# Altium footprint library Connector-Header.PcbLib: 107 footprints (part 4 of 7)
Each footprint in its own frame and in the unit in brackets; x right, y up, seen from the top. Pads: shape width x height; smd on the part's side, far side on the other; paste and mask are expansions set on the pad; w line width, h text height; cw(c..) or ccw(c..) is an arc to the next point about the centre after c.
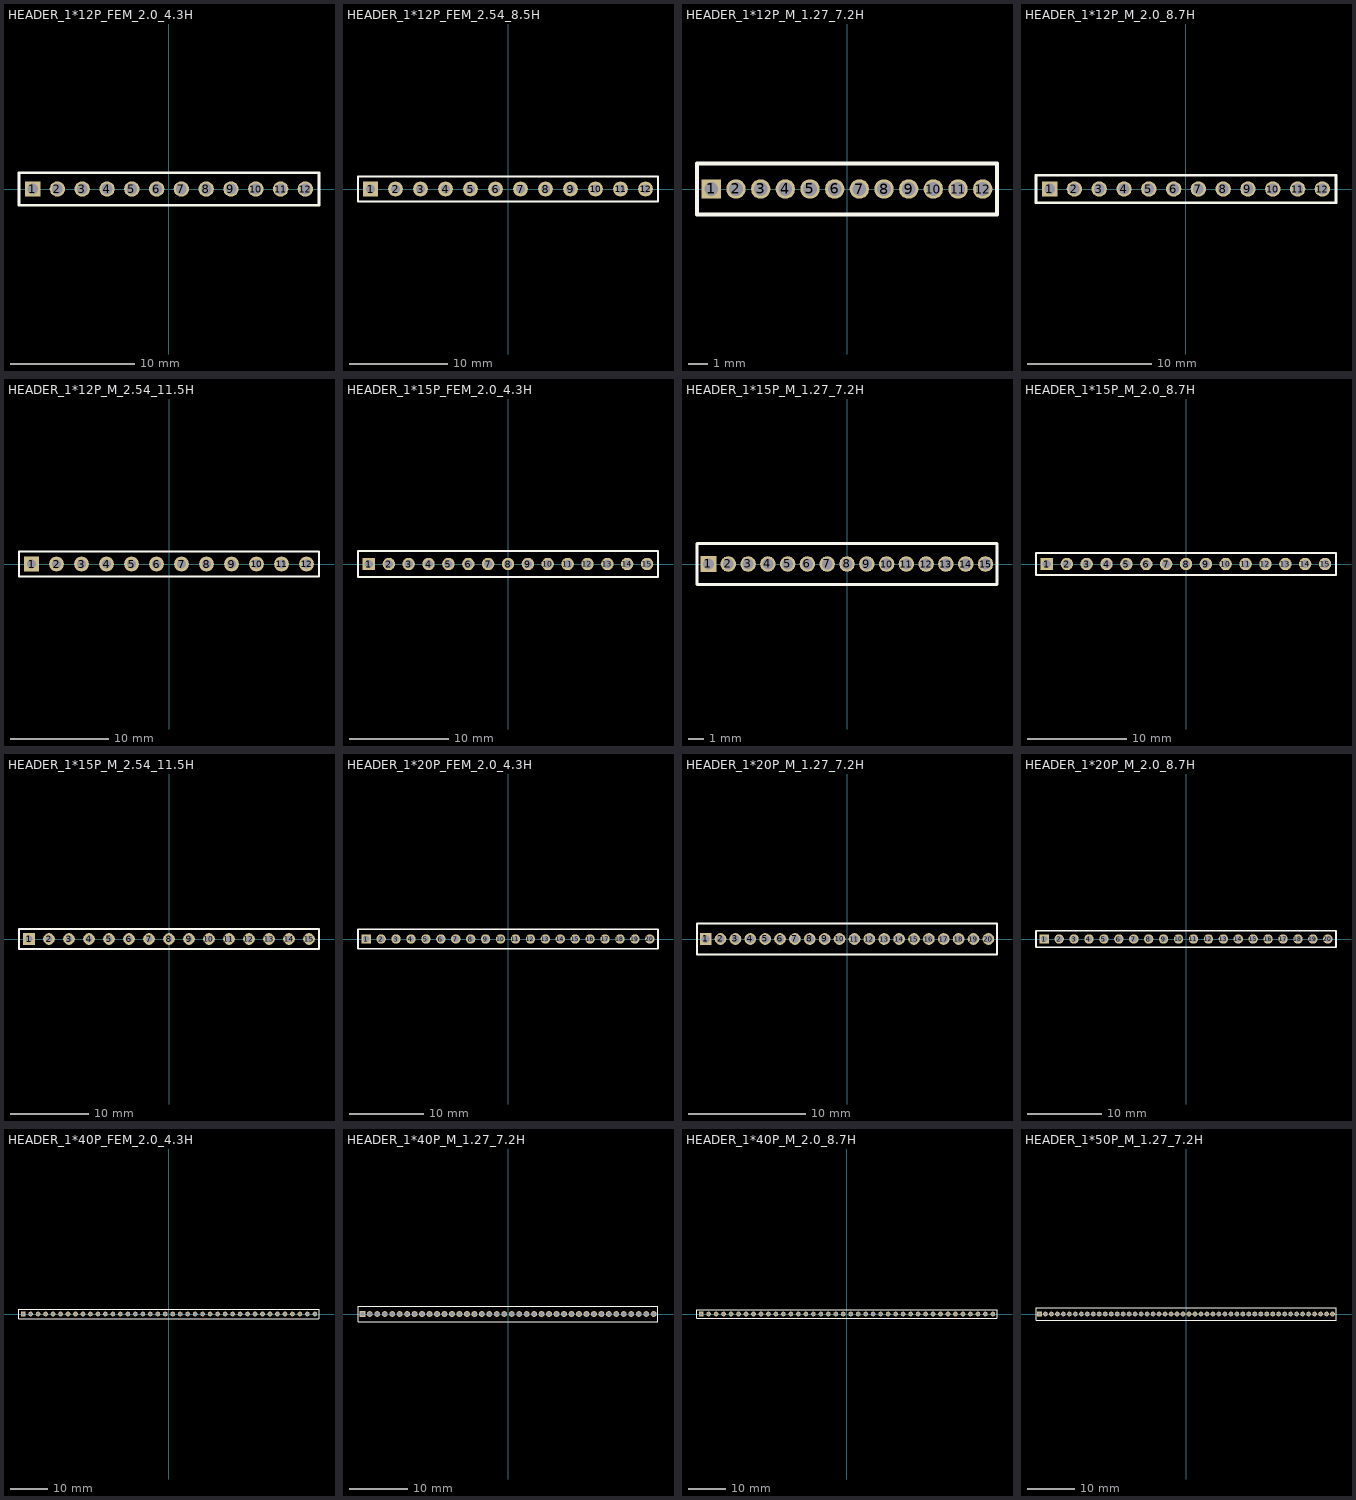
[diagram p3: the footprints below, top view; thin cyan lines are the x and y axes]

## HEADER_1*12P_FEM_2.0_4.3H [mm]
pads (12):
  rect 1.25x1.25 hole 0.85: 1(-11,0)
  round 1.25 hole 0.85: 2(-9,0) 3(-7,0) 4(-5,0) 5(-3,0) 6(-1,0) 7(1,0) 8(3,0) 9(5,0) 10(7,0) 11(9,0) 12(11,0)
Top Overlay:
  lines w0.203: -12.1,-1.3 12.1,-1.3 12.1,1.3 -12.1,1.3 -12.1,-1.3

## HEADER_1*12P_FEM_2.54_8.5H [mm] "Connector; Header; 12 Position"
pads (12):
  rect 1.5x1.5 hole 0.9: 1(-13.97,0)
  round 1.5 hole 0.9: 2(-11.43,0) 3(-8.89,0) 4(-6.35,0) 5(-3.81,0) 6(-1.27,0) 7(1.27,0) 8(3.81,0) 9(6.35,0) 10(8.89,0) 11(11.43,0) 12(13.97,0)
Top Overlay:
  lines w0.2: -15.24,-1.27 15.24,-1.27 15.24,1.27 -13.335,1.27 -15.24,1.27 -15.24,-1.27

## HEADER_1*12P_M_1.27_7.2H [mm]
pads (12):
  rect 1x1 hole 0.7: 1(-6.985,0)
  round 1 hole 0.7: 2(-5.715,0) 3(-4.445,0) 4(-3.175,0) 5(-1.905,0) 6(-0.635,0) 7(0.635,0) 8(1.905,0) 9(3.175,0) 10(4.445,0) 11(5.715,0) 12(6.985,0)
Top Overlay:
  lines w0.203: -7.722,-1.321 7.722,-1.321 7.722,1.321 -7.722,1.321 -7.722,-1.321

## HEADER_1*12P_M_2.0_8.7H [mm]
pads (12):
  rect 1.25x1.25 hole 0.85: 1(-11,0)
  round 1.25 hole 0.85: 2(-9,0) 3(-7,0) 4(-5,0) 5(-3,0) 6(-1,0) 7(1,0) 8(3,0) 9(5,0) 10(7,0) 11(9,0) 12(11,0)
Top Overlay:
  lines w0.203: -12.1,-1.1 -12.1,1.1 12.1,1.1 12.1,-1.1 -12.1,-1.1

## HEADER_1*12P_M_2.54_11.5H [mm] "Connector; Header; 12 Position"
pads (12):
  rect 1.5x1.5 hole 0.9: 1(-13.97,0)
  round 1.5 hole 0.9: 2(-11.43,0) 3(-8.89,0) 4(-6.35,0) 5(-3.81,0) 6(-1.27,0) 7(1.27,0) 8(3.81,0) 9(6.35,0) 10(8.89,0) 11(11.43,0) 12(13.97,0)
Top Overlay:
  lines w0.2: -15.24,-1.27 15.24,-1.27 15.24,1.27 -13.335,1.27 -15.24,1.27 -15.24,-1.27
3D body "Samtec-12.step": height 8.89, standoff -2.03, extent -15.113,-1.245 15.367,1.295

## HEADER_1*15P_FEM_2.0_4.3H [mm]
pads (15):
  rect 1.25x1.25 hole 0.85: 1(-14,0)
  round 1.25 hole 0.85: 2(-12,0) 3(-10,0) 4(-8,0) 5(-6,0) 6(-4,0) 7(-2,0) 8(0,0) 9(2,0) 10(4,0) 11(6,0) 12(8,0) 13(10,0) 14(12,0) 15(14,0)
Top Overlay:
  lines w0.203: -15.1,-1.3 15.1,-1.3 15.1,1.3 -15.1,1.3 -15.1,-1.3

## HEADER_1*15P_M_1.27_7.2H [mm]
pads (15):
  rect 1x1 hole 0.7: 1(-8.89,0)
  round 1 hole 0.7: 2(-7.62,0) 3(-6.35,0) 4(-5.08,0) 5(-3.81,0) 6(-2.54,0) 7(-1.27,0) 8(0,0) 9(1.27,0) 10(2.54,0) 11(3.81,0) 12(5.08,0) 13(6.35,0) 14(7.62,0) 15(8.89,0)
Top Overlay:
  lines w0.203: -9.627,-1.321 9.627,-1.321 9.627,1.321 -9.627,1.321 -9.627,-1.321

## HEADER_1*15P_M_2.0_8.7H [mm]
pads (15):
  rect 1.25x1.25 hole 0.85: 1(-14,0)
  round 1.25 hole 0.85: 2(-12,0) 3(-10,0) 4(-8,0) 5(-6,0) 6(-4,0) 7(-2,0) 8(0,0) 9(2,0) 10(4,0) 11(6,0) 12(8,0) 13(10,0) 14(12,0) 15(14,0)
Top Overlay:
  lines w0.203: -15.1,-1.1 15.1,-1.1 15.1,1.1 -15.1,1.1 -15.1,-1.1

## HEADER_1*15P_M_2.54_11.5H [mm] "Connector; Header; 15 Position"
pads (15):
  rect 1.5x1.5 hole 0.9: 1(-17.78,0)
  round 1.5 hole 0.9: 2(-15.24,0) 3(-12.7,0) 4(-10.16,0) 5(-7.62,0) 6(-5.08,0) 7(-2.54,0) 8(0,0) 9(2.54,0) 10(5.08,0) 11(7.62,0) 12(10.16,0) 13(12.7,0) 14(15.24,0) 15(17.78,0)
Top Overlay:
  lines w0.2: -19.05,-1.27 19.05,-1.27 19.05,1.27 -17.145,1.27 -19.05,1.27 -19.05,-1.27
3D body "Samtec-15.step": height 8.89, standoff -2.03, extent -19.126,-1.245 18.974,1.295

## HEADER_1*20P_FEM_2.0_4.3H [mm]
pads (20):
  rect 1.25x1.25 hole 0.85: 1(-19,0)
  round 1.25 hole 0.85: 2(-17,0) 3(-15,0) 4(-13,0) 5(-11,0) 6(-9,0) 7(-7,0) 8(-5,0) 9(-3,0) 10(-1,0) 11(1,0) 12(3,0) 13(5,0) 14(7,0) 15(9,0) 16(11,0) 17(13,0) 18(15,0) 19(17,0) 20(19,0)
Top Overlay:
  lines w0.203: -20.1,-1.3 -20.1,1.3 20.1,1.3 20.1,-1.3 -20.1,-1.3

## HEADER_1*20P_M_1.27_7.2H [mm]
pads (20):
  rect 1x1 hole 0.7: 1(-12.065,0)
  round 1 hole 0.7: 2(-10.795,0) 3(-9.525,0) 4(-8.255,0) 5(-6.985,0) 6(-5.715,0) 7(-4.445,0) 8(-3.175,0) 9(-1.905,0) 10(-0.635,0) 11(0.635,0) 12(1.905,0) 13(3.175,0) 14(4.445,0) 15(5.715,0) 16(6.985,0) 17(8.255,0) 18(9.525,0) 19(10.795,0) 20(12.065,0)
Top Overlay:
  lines w0.203: -12.802,-1.321 -12.802,1.321 12.802,1.321 12.802,-1.321 -12.802,-1.321

## HEADER_1*20P_M_2.0_8.7H [mm]
pads (20):
  rect 1.25x1.25 hole 0.85: 1(-19,0)
  round 1.25 hole 0.85: 2(-17,0) 3(-15,0) 4(-13,0) 5(-11,0) 6(-9,0) 7(-7,0) 8(-5,0) 9(-3,0) 10(-1,0) 11(1,0) 12(3,0) 13(5,0) 14(7,0) 15(9,0) 16(11,0) 17(13,0) 18(15,0) 19(17,0) 20(19,0)
Top Overlay:
  lines w0.203: -20.1,-1.1 -20.1,1.1 20.1,1.1 20.1,-1.1 -20.1,-1.1

## HEADER_1*40P_FEM_2.0_4.3H [mm]
pads (40):
  rect 1.25x1.25 hole 0.85: 1(-39,0)
  round 1.25 hole 0.85: 2(-37,0) 3(-35,0) 4(-33,0) 5(-31,0) 6(-29,0) 7(-27,0) 8(-25,0) 9(-23,0) 10(-21,0) 11(-19,0) 12(-17,0) 13(-15,0) 14(-13,0) 15(-11,0) 16(-9,0) 17(-7,0) 18(-5,0) 19(-3,0) 20(-1,0) 21(1,0) 22(3,0) 23(5,0) 24(7,0) 25(9,0) 26(11,0) 27(13,0) 28(15,0) 29(17,0) 30(19,0) 31(21,0) 32(23,0) 33(25,0) 34(27,0) 35(29,0) 36(31,0) 37(33,0) 38(35,0) 39(37,0) 40(39,0)
Top Overlay:
  lines w0.203: -40.1,-1.3 -40.1,1.3 40.1,1.3 40.1,-1.3 -40.1,-1.3

## HEADER_1*40P_M_1.27_7.2H [mm]
pads (40):
  rect 1x1 hole 0.7: 1(-24.765,0)
  round 1 hole 0.7: 2(-23.495,0) 3(-22.225,0) 4(-20.955,0) 5(-19.685,0) 6(-18.415,0) 7(-17.145,0) 8(-15.875,0) 9(-14.605,0) 10(-13.335,0) 11(-12.065,0) 12(-10.795,0) 13(-9.525,0) 14(-8.255,0) 15(-6.985,0) 16(-5.715,0) 17(-4.445,0) 18(-3.175,0) 19(-1.905,0) 20(-0.635,0) 21(0.635,0) 22(1.905,0) 23(3.175,0) 24(4.445,0) 25(5.715,0) 26(6.985,0) 27(8.255,0) 28(9.525,0) 29(10.795,0) 30(12.065,0) 31(13.335,0) 32(14.605,0) 33(15.875,0) 34(17.145,0) 35(18.415,0) 36(19.685,0) 37(20.955,0) 38(22.225,0) 39(23.495,0) 40(24.765,0)
Top Overlay:
  lines w0.203: -25.502,-1.321 -25.502,1.321 25.502,1.321 25.502,-1.321 -25.502,-1.321

## HEADER_1*40P_M_2.0_8.7H [mm]
pads (40):
  rect 1.25x1.25 hole 0.85: 1(-39,0)
  round 1.25 hole 0.85: 2(-37,0) 3(-35,0) 4(-33,0) 5(-31,0) 6(-29,0) 7(-27,0) 8(-25,0) 9(-23,0) 10(-21,0) 11(-19,0) 12(-17,0) 13(-15,0) 14(-13,0) 15(-11,0) 16(-9,0) 17(-7,0) 18(-5,0) 19(-3,0) 20(-1,0) 21(1,0) 22(3,0) 23(5,0) 24(7,0) 25(9,0) 26(11,0) 27(13,0) 28(15,0) 29(17,0) 30(19,0) 31(21,0) 32(23,0) 33(25,0) 34(27,0) 35(29,0) 36(31,0) 37(33,0) 38(35,0) 39(37,0) 40(39,0)
Top Overlay:
  lines w0.203: -40.1,-1.1 -40.1,1.1 40.1,1.1 40.1,-1.1 -40.1,-1.1

## HEADER_1*50P_M_1.27_7.2H [mm]
pads (50):
  rect 1x1 hole 0.7: 1(-31.115,0)
  round 1 hole 0.7: 2(-29.845,0) 3(-28.575,0) 4(-27.305,0) 5(-26.035,0) 6(-24.765,0) 7(-23.495,0) 8(-22.225,0) 9(-20.955,0) 10(-19.685,0) 11(-18.415,0) 12(-17.145,0) 13(-15.875,0) 14(-14.605,0) 15(-13.335,0) 16(-12.065,0) 17(-10.795,0) 18(-9.525,0) 19(-8.255,0) 20(-6.985,0) 21(-5.715,0) 22(-4.445,0) 23(-3.175,0) 24(-1.905,0) 25(-0.635,0) 26(0.635,0) 27(1.905,0) 28(3.175,0) 29(4.445,0) 30(5.715,0) 31(6.985,0) 32(8.255,0) 33(9.525,0) 34(10.795,0) 35(12.065,0) 36(13.335,0) 37(14.605,0) 38(15.875,0) 39(17.145,0) 40(18.415,0) 41(19.685,0) 42(20.955,0) 43(22.225,0) 44(23.495,0) 45(24.765,0) 46(26.035,0) 47(27.305,0) 48(28.575,0) 49(29.845,0) 50(31.115,0)
Top Overlay:
  lines w0.203: -31.852,-1.321 31.852,-1.321 31.852,1.321 -31.852,1.321 -31.852,-1.321